# EAGLE library part SDIL4 (library divers)
DIL switch 4 lines
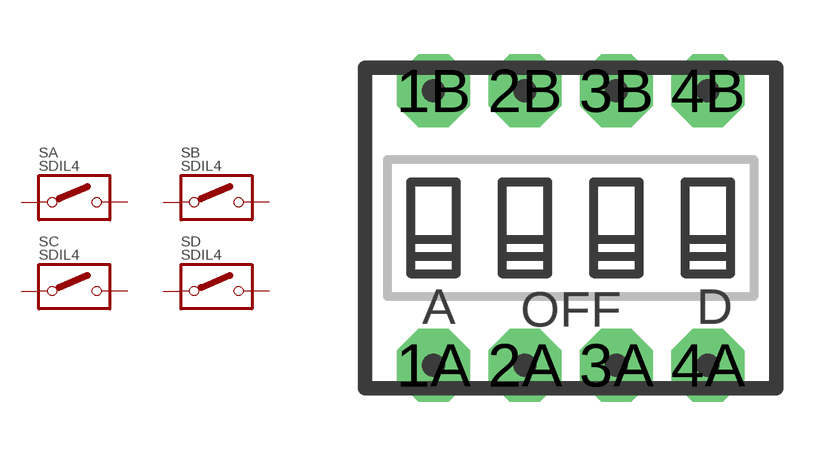
[diagram p5: symbol with the pads of SDIL04N; footprint SDIL04N]

Designator prefix S; gates A=SDIL C=SDIL B=SDIL D=SDIL

## SDIL4  [SDIL04N]
1A  A:S1
1B  A:S2
2A  B:S1
2B  B:S2
3A  C:S1
3B  C:S2
4A  D:S1
4B  D:S2

## Footprint SDIL04N (pad centres in mm)
DIL switch 4 lines
drill 0.889 pad 2.032 octagon: 1A -3.81,-3.81; 1B -3.81,3.81; 2A -1.27,-3.81; 2B -1.27,3.81; 3A 1.27,-3.81; 3B 1.27,3.81; 4A 3.81,-3.81; 4B 3.81,3.81